# Altium schematic symbol library INA186.SchLib: 1 symbol
Pins are listed as number, name and electrical type; pins without a type are passive.

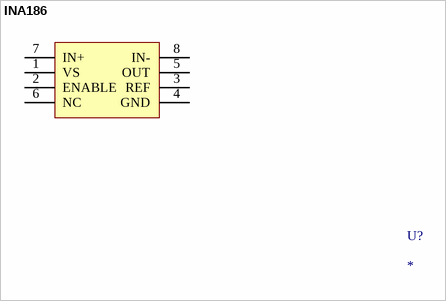
[diagram p0: symbol INA186]

## INA186
designator U?
pins: 1 VS, 2 ENABLE, 3 REF, 4 GND, 5 OUT, 6 NC, 7 IN+, 8 IN-